# EAGLE library part LP2992AILD (library jobygnss)
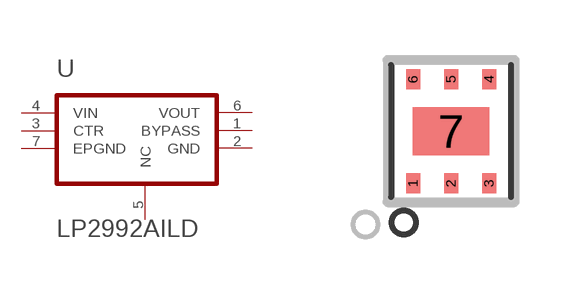
[diagram p1: symbol with the pads of LP2992AILD; footprint LP2992AILD]

Designator prefix -

## LP2992AILD  [LP2992AILD]
1  BYPASS
2  GND
3  CTR
4  VIN
5  NC
6  VOUT
7  EPGND

## Footprint LP2992AILD (pad centres in mm)
smd 0.35 x 0.5: 1 -0.95,-1.3; 2 0,-1.3; 3 0.95,-1.3; 4 0.95,1.3; 5 0,1.3; 6 -0.95,1.3
smd 1.92 x 1.2: 7 0,0